# EAGLE library part SN74AHC08PW (library SN74AHC08PW)
Quadruple 2-Input Positive-AND Gates Source: Datasheet <http://www.ti.com/lit/gpn/SN74AHC08>
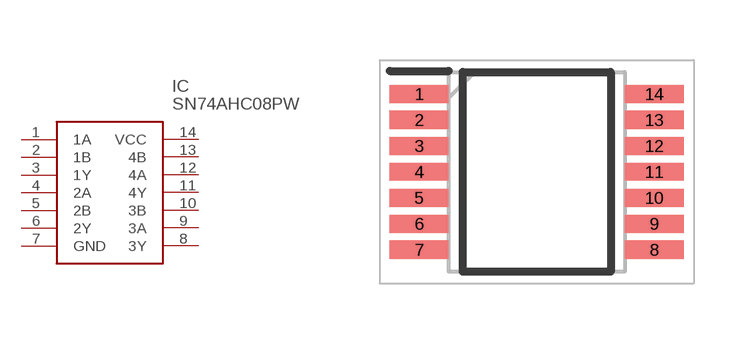
[diagram p0: symbol with the pads of SOP65P640X120-14N; footprint SOP65P640X120-14N]

Designator prefix IC

## SN74AHC08PW (Arrow_Part_Number: SN74AHC08PW; Arrow_Price-Stock: https://www.arrow.com/en/products/sn74ahc08pw/texas-instruments; Description: Quadruple 2-Input Positive-AND Gates; Height: 1.2mm; Manufacturer_Name: Texas Instruments; Manufacturer_Part_Number: SN74AHC08PW; Mouser_Part_Number: 595-SN74AHC08PW; Mouser_Price-Stock: https://www.mouser.co.uk/ProductDetail/Texas-Instruments/SN74AHC08PW?qs=3pnr37ZAbK%252BIPRPPiAPWMg%3D%3D)  [SOP65P640X120-14N]
1  1A
2  1B
3  1Y
4  2A
5  2B
6  2Y
7  GND
8  3Y
9  3A
10  3B
11  4Y
12  4A
13  4B
14  VCC

## Footprint SOP65P640X120-14N (pad centres in mm)
pw(r-pdso-g14)
smd 1.475 x 0.45: 1 -2.938,1.95; 2 -2.938,1.3; 3 -2.938,0.65; 4 -2.938,0; 5 -2.938,-0.65; 6 -2.938,-1.3; 7 -2.938,-1.95; 8 2.938,-1.95; 9 2.938,-1.3; 10 2.938,-0.65; 11 2.938,0; 12 2.938,0.65; 13 2.938,1.3; 14 2.938,1.95